# EAGLE library part WURTH_824014 (library 1)
Wurth 824014 TVS Diode Array USB TVS array
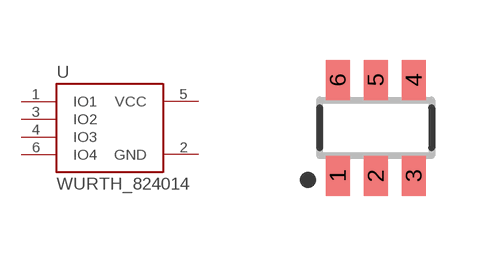
[diagram p39: symbol with the pads of SOT23-6; footprint SOT23-6]

Designator prefix -

## WURTH_824014  [SOT23-6]
1  IO1
2  GND
3  IO2
4  IO3
5  VCC
6  IO4

## Footprint SOT23-6 (pad centres in mm)
smd 0.6 x 1: 1 -0.95,-1.2; 2 0,-1.2; 3 0.95,-1.2; 4 0.95,1.2; 5 0,1.2; 6 -0.95,1.2